# Altium schematic symbol library ON-OFF SWITCH.SchLib: 1 symbol
Pins are listed as number, name and electrical type; pins without a type are passive.

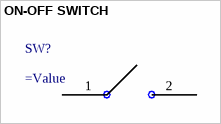
[diagram p0: symbol ON-OFF SWITCH]

## ON-OFF SWITCH
designator SW?
=Description
pins: 1, 2